# Altium footprint library Raspberry.PcbLib: 1 footprints
Each footprint in its own frame and in the unit in brackets; x right, y up, seen from the top. Pads: shape width x height; smd on the part's side, far side on the other; paste and mask are expansions set on the pad; w line width, h text height; cw(c..) or ccw(c..) is an arc to the next point about the centre after c.
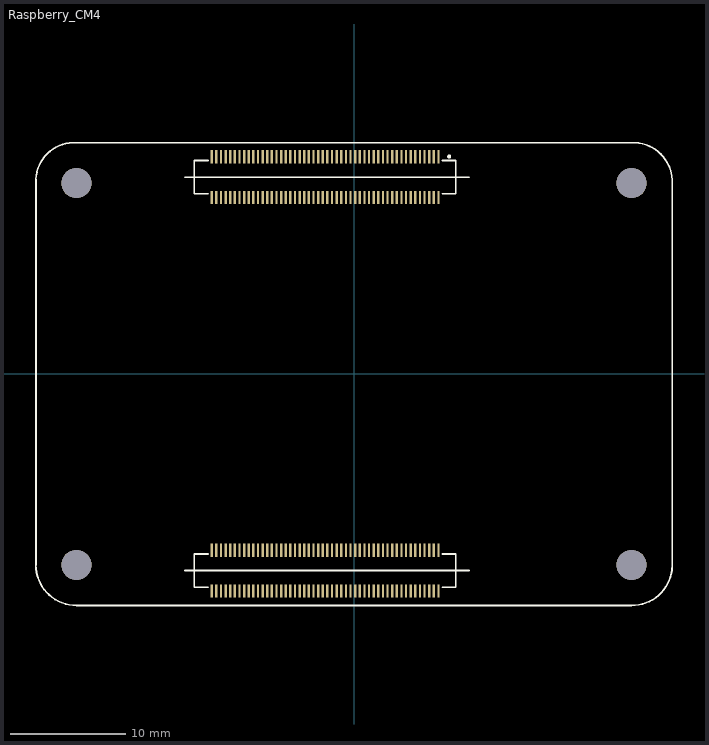
[diagram p0: the footprint, top view; thin cyan lines are the x and y axes]

## Raspberry_CM4 [mm] "CM4_200PIN"
pads (204):
  rect 0.2x1.15 smd: 1(7.3,18.77) 2(7.3,15.24) 3(6.9,18.77) 4(6.9,15.24) 5(6.5,18.77) 6(6.5,15.24) 7(6.1,18.77) 8(6.1,15.24) 9(5.7,18.77) 10(5.7,15.24) 11(5.3,18.77) 12(5.3,15.24) 13(4.9,18.77) 14(4.9,15.24) 15(4.5,18.77) 16(4.5,15.24) 17(4.1,18.77) 18(4.1,15.24) 19(3.7,18.77) 20(3.7,15.24) 21(3.3,18.77) 22(3.3,15.24) 23(2.9,18.77) 24(2.9,15.24) 25(2.5,18.77) 26(2.5,15.24) 27(2.1,18.77) 28(2.1,15.24) 29(1.7,18.77) 30(1.7,15.24) 31(1.3,18.77) 32(1.3,15.24) 33(0.9,18.77) 34(0.9,15.24) 35(0.5,18.77) 36(0.5,15.24) 37(0.1,18.77) 38(0.1,15.24) 39(-0.3,18.77) 40(-0.3,15.24) 41(-0.7,18.77) 42(-0.7,15.24) 43(-1.1,18.77) 44(-1.1,15.24) 45(-1.5,18.77) 46(-1.5,15.24) 47(-1.9,18.77) 48(-1.9,15.24) 49(-2.3,18.77) 50(-2.3,15.24) 51(-2.7,18.77) 52(-2.7,15.24) 53(-3.1,18.77) 54(-3.1,15.24) 55(-3.5,18.77) 56(-3.5,15.24) 57(-3.9,18.77) 58(-3.9,15.24) 59(-4.3,18.77) 60(-4.3,15.24) 61(-4.7,18.77) 62(-4.7,15.24) 63(-5.1,18.77) 64(-5.1,15.24) 65(-5.5,18.77) 66(-5.5,15.24) 67(-5.9,18.77) 68(-5.9,15.24) 69(-6.3,18.77) 70(-6.3,15.24) 71(-6.7,18.77) 72(-6.7,15.24) 73(-7.1,18.77) 74(-7.1,15.24) 75(-7.5,18.77) 76(-7.5,15.24) 77(-7.9,18.77) 78(-7.9,15.24) 79(-8.3,18.77) 80(-8.3,15.24) 81(-8.7,18.77) 82(-8.7,15.24) 83(-9.1,18.77) 84(-9.1,15.24) 85(-9.5,18.77) 86(-9.5,15.24) 87(-9.9,18.77) 88(-9.9,15.24) 89(-10.3,18.77) 90(-10.3,15.24) 91(-10.7,18.77) 92(-10.7,15.24) 93(-11.1,18.77) 94(-11.1,15.24) 95(-11.5,18.77) 96(-11.5,15.24) 97(-11.9,18.77) 98(-11.9,15.24) 99(-12.3,18.77) 100(-12.3,15.24) 101(7.3,-15.24) 102(7.3,-18.77) 103(6.9,-15.24) 104(6.9,-18.77) 105(6.5,-15.24) 106(6.5,-18.77) 107(6.1,-15.24) 108(6.1,-18.77) 109(5.7,-15.24) 110(5.7,-18.77) 111(5.3,-15.24) 112(5.3,-18.77) 113(4.9,-15.24) 114(4.9,-18.77) 115(4.5,-15.24) 116(4.5,-18.77) 117(4.1,-15.24) 118(4.1,-18.77) 119(3.7,-15.24) 120(3.7,-18.77) 121(3.3,-15.24) 122(3.3,-18.77) 123(2.9,-15.24) 124(2.9,-18.77) 125(2.5,-15.24) 126(2.5,-18.77) 127(2.1,-15.24) 128(2.1,-18.77) 129(1.7,-15.24) 130(1.7,-18.77) 131(1.3,-15.24) 132(1.3,-18.77) 133(0.9,-15.24) 134(0.9,-18.77) 135(0.5,-15.24) 136(0.5,-18.77) 137(0.1,-15.24) 138(0.1,-18.77) 139(-0.3,-15.24) 140(-0.3,-18.77) 141(-0.7,-15.24) 142(-0.7,-18.77) 143(-1.1,-15.24) 144(-1.1,-18.77) 145(-1.5,-15.24) 146(-1.5,-18.77) 147(-1.9,-15.24) 148(-1.9,-18.77) 149(-2.3,-15.24) 150(-2.3,-18.77) 151(-2.7,-15.24) 152(-2.7,-18.77) 153(-3.1,-15.24) 154(-3.1,-18.77) 155(-3.5,-15.24) 156(-3.5,-18.77) 157(-3.9,-15.24) 158(-3.9,-18.77) 159(-4.3,-15.24) 160(-4.3,-18.77) 161(-4.7,-15.24) 162(-4.7,-18.77) 163(-5.1,-15.24) 164(-5.1,-18.77) 165(-5.5,-15.24) 166(-5.5,-18.77) 167(-5.9,-15.24) 168(-5.9,-18.77) 169(-6.3,-15.24) 170(-6.3,-18.77) 171(-6.7,-15.24) 172(-6.7,-18.77) 173(-7.1,-15.24) 174(-7.1,-18.77) 175(-7.5,-15.24) 176(-7.5,-18.77) 177(-7.9,-15.24) 178(-7.9,-18.77) 179(-8.3,-15.24) 180(-8.3,-18.77) 181(-8.7,-15.24) 182(-8.7,-18.77) 183(-9.1,-15.24) 184(-9.1,-18.77) 185(-9.5,-15.24) 186(-9.5,-18.77) 187(-9.9,-15.24) 188(-9.9,-18.77) 189(-10.3,-15.24) 190(-10.3,-18.77) 191(-10.7,-15.24) 192(-10.7,-18.77) 193(-11.1,-15.24) 194(-11.1,-18.77) 195(-11.5,-15.24) 196(-11.5,-18.77) 197(-11.9,-15.24) 198(-11.9,-18.77) 199(-12.3,-15.24) 200(-12.3,-18.77)
  round 2.6 hole 2.6: ""(-24,-16.513) ""(-24,16.487) ""(24,-16.513) ""(24,16.487)
Top Overlay:
  circle w0.2: c8.23,18.783 r0.072
  lines w0.152: -14.63,-17.005 9.957,-17.005 ; -14.63,17.005 9.957,17.005 ; -12.631,-18.445 -13.8,-18.445 -13.8,-15.565 -12.631,-15.565 ; -12.631,15.565 -13.8,15.565 -13.8,18.445 -12.631,18.445 ; 7.631,-18.445 8.8,-18.445 8.8,-15.565 7.631,-15.565 ; 7.631,15.565 8.8,15.565 8.8,18.445 7.631,18.445 ; -27.5,-16.533 ccw(c-24.01,-16.523) -24,-20.013 24,-20.013 ccw(c24.039,-16.552) 27.5,-16.591 27.5,16.773 ccw(c24.143,16.63) 24,19.987 -24,19.987 ccw(c-24.171,16.658) -27.5,16.829 -27.5,-16.533